# EAGLE library part TPS6204* (library kamiki)
TPS62044, 1.2A/1.25MHz High-Efficiency Step-Down Converter
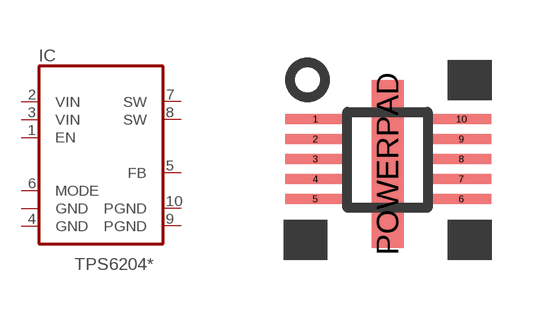
[diagram p34: symbol with the pads of QFN-10; footprint QFN-10]

Designator prefix IC

## TPS62040DRC, TPS62042DRC, TPS62043DRC, TPS62044DRC, TPS62046DRC  [QFN-10]
1  EN  in
2  VIN  in
3  VIN  in
4  GND  pwr
5  FB  pas
6  MODE  in
7  SW  out
8  SW  out
9  PGND  pwr
10  PGND  pwr
POWERPAD  GND  pwr

## Footprint QFN-10 (pad centres in mm)
QFN-10
smd 1.5 x 0.25: 1 -1.805,1.02; 2 -1.805,0.52; 3 -1.805,0.02; 4 -1.805,-0.48; 5 -1.805,-0.98; 6 1.845,-0.98; 7 1.845,-0.48; 8 1.845,0.02; 9 1.845,0.52; 10 1.845,1.02
smd 0.8 x 4.2: POWERPAD 0,-0.1